# EAGLE library part TE_3X5 (library os1)
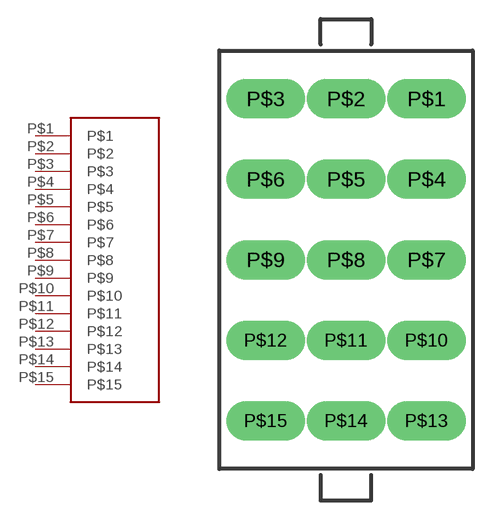
[diagram p3: symbol with the pads of TRS80M2_3X5; footprint TRS80M2_3X5]

Designator prefix -

## TE_3X5  [TRS80M2_3X5]
P$1  P$1
P$2  P$2
P$3  P$3
P$4  P$4
P$5  P$5
P$6  P$6
P$7  P$7
P$8  P$8
P$9  P$9
P$10  P$10
P$11  P$11
P$12  P$12
P$13  P$13
P$14  P$14
P$15  P$15

## Footprint TRS80M2_3X5 (pad centres in mm)
drill 2.1 pad 2.54 long: P$1 6.35,12.7; P$2 0,12.7; P$3 -6.35,12.7; P$4 6.35,6.35; P$5 0,6.35; P$6 -6.35,6.35; P$7 6.35,0; P$8 0,0; P$9 -6.35,0; P$10 6.35,-6.35; P$11 0,-6.35; P$12 -6.35,-6.35; P$13 6.35,-12.7; P$14 0,-12.7; P$15 -6.35,-12.7